# EAGLE library part PCA9511A (library PatternAgents-NXP)
Hot swappable I2C-bus and SMBus bus buffer
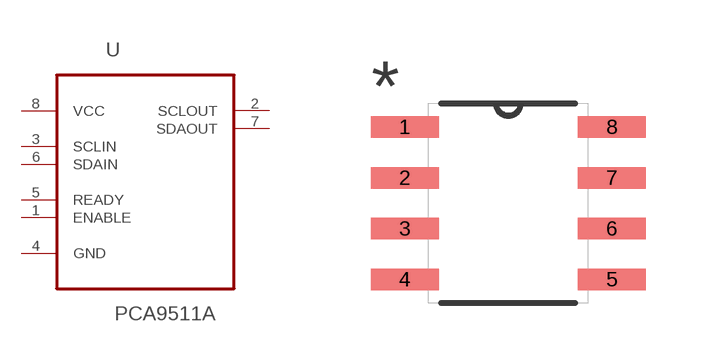
[diagram p3: symbol with the pads of SOIC127P600X175-8N; footprint SOIC127P600X175-8N]

Designator prefix U

## PCA9511A  [SOIC127P600X175-8N]
1  ENABLE  in
2  SCLOUT  out
3  SCLIN  in
4  GND  pas
5  READY  in
6  SDAIN  in
7  SDAOUT  out
8  VCC  pwr

## Footprint SOIC127P600X175-8N (pad centres in mm)
smd 1.702 x 0.533: 1 -2.591,1.905; 2 -2.591,0.635; 3 -2.591,-0.635; 4 -2.591,-1.905; 5 2.591,-1.905; 6 2.591,-0.635; 7 2.591,0.635; 8 2.591,1.905